# Altium footprint library PPD42NS_footprint.PcbLib: 1 footprints
Each footprint in its own frame and in the unit in brackets; x right, y up, seen from the top. Pads: shape width x height; smd on the part's side, far side on the other; paste and mask are expansions set on the pad; w line width, h text height; cw(c..) or ccw(c..) is an arc to the next point about the centre after c.
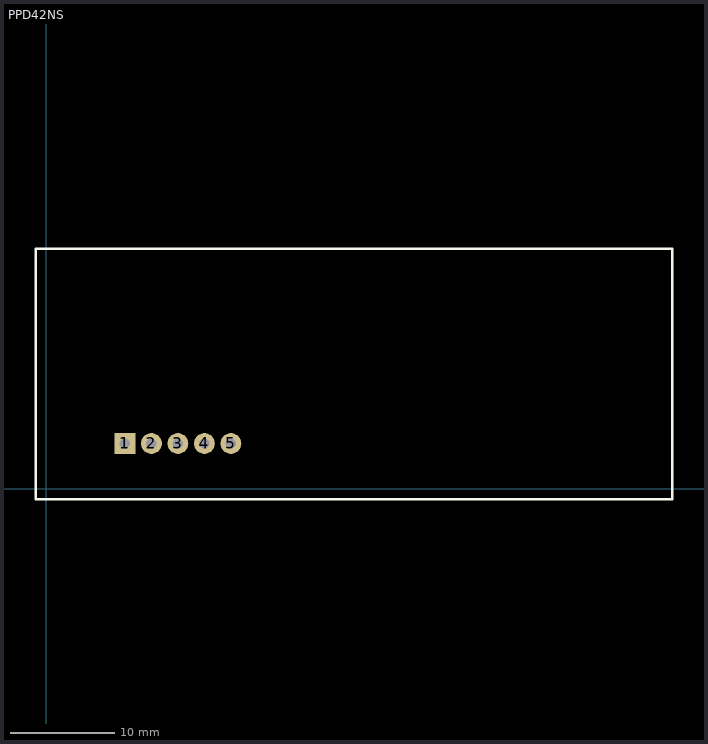
[diagram p0: the footprint, top view; thin cyan lines are the x and y axes]

## PPD42NS [mm]
pads (5):
  rect 2x2 hole 1: 1(7.54,4.34)
  round 2 hole 1: 2(10.08,4.34) 3(12.62,4.34) 4(15.16,4.34) 5(17.7,4.34)
Top Overlay:
  lines w0.254: -1,-1 60,-1 60,23 -1,23 -1,-1